# Altium footprint library SAMTEC-FTS-103-01-X-S.PcbLib: 1 footprints
Each footprint in its own frame and in the unit in brackets; x right, y up, seen from the top. Pads: shape width x height; smd on the part's side, far side on the other; paste and mask are expansions set on the pad; w line width, h text height; cw(c..) or ccw(c..) is an arc to the next point about the centre after c.
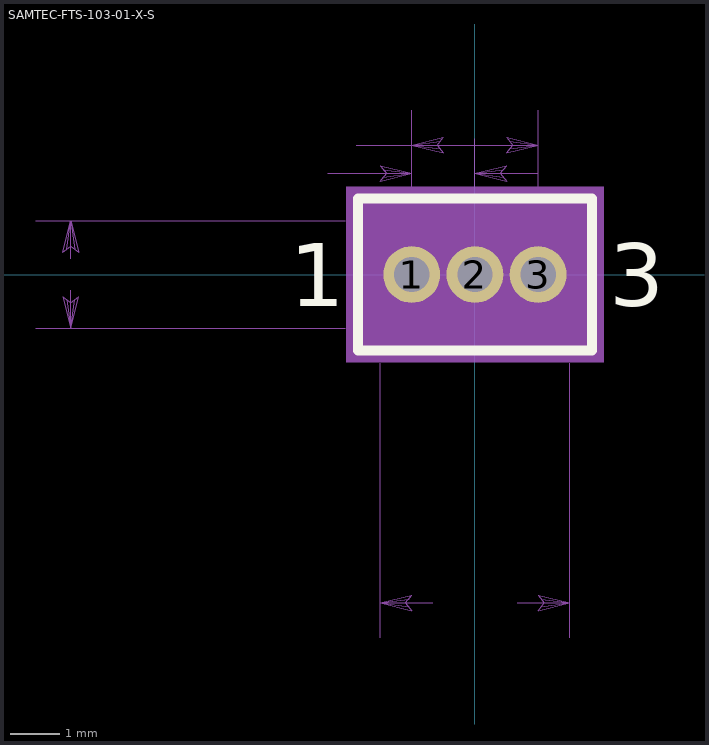
[diagram p0: the footprint, top view; thin cyan lines are the x and y axes]

## SAMTEC-FTS-103-01-X-S [mil]
pads (3):
  round 45 hole 27.95 mask+0: 1(-50,0) 2(0,0) 3(50,0)
Top Overlay:
  lines w7.87: -92.72,-60.24 -92.72,60.24 92.72,60.24 92.72,-60.24 -92.72,-60.24
  text "1" at -146.65,-25 h50
  text "3" at 106.14,-25 h50
Top Solder:
  circle w0: c-50,0 r24.49
  circle w0: c0,0 r24.49
  circle w0: c50,0 r24.49
Bottom Solder:
  circle w0: c-50,0 r24.49
  circle w0: c0,0 r24.49
  circle w0: c50,0 r24.49
Mechanical 13:
  lines w0: -347.6,-42.52 -102.6,-42.52 ; -347.6,42.52 -102.6,42.52 ; -320,-12.52 -320,-42.52 ; -320,12.52 -320,42.52 ; -116.5,80 -50,80 ; -94.02,102.52 -50,102.52 ; -75,-287.6 -75,-70.12 ; -50,107.6 -50,27.6 -50,130.12 ; -33.5,-260 -75,-260 ; 0,27.6 0,107.6 ; 33.5,-260 75,-260 ; 50,27.6 50,130.12 ; 50,80 0,80 ; 75,-287.6 75,-70.12 ; -326.26,-17.48 -320,-42.52 ; -326.26,-17.48 -320,-22.52 ; -326.26,-17.48 -323.11,-20 -320,-42.52 ; -320,-42.52 -313.74,-17.48 -320,-22.52 ; -320,-42.52 -316.89,-20 -320,-22.52 ; -320,-42.52 -320,-22.52 ; -320,22.52 -326.26,17.48 -320,42.52 ; -320,22.52 -313.74,17.48 ; -320,22.52 -323.11,20 -320,42.52 ; -320,22.52 -320,42.52 ; -320,42.52 -313.74,17.48 ; -320,42.52 -316.89,20 -313.74,17.48 ; -75,-260 -50,-253.74 ; -75,-260 -50,-266.26 -55,-260 ; -75,-260 -52.52,-263.11 -55,-260 ; -75,-260 -55,-260 ; -75,-260 -52.52,-256.89 -50,-253.74 ; -75,73.74 -50,80 ; -75,73.74 -70,80 ; -75,73.74 -72.52,76.89 -50,80 ; -70,80 -75,86.26 -50,80 ; -70,80 -72.52,83.11 -50,80 ; -70,80 -50,80 ; -55,-260 -50,-253.74 ; -50,102.52 -25,108.74 ; -50,102.52 -25,96.26 -30,102.52 ; -50,102.52 -27.48,99.37 -30,102.52 ; -50,102.52 -30,102.52 ; -50,102.52 -27.48,105.63 -25,108.74 ; -50,102.52 50,102.52 ; -30,102.52 -25,108.74 ; 0,80 25,86.26 ; 0,80 25,73.74 20,80 ; 0,80 22.52,76.89 20,80 ; 0,80 20,80 ; 0,80 22.52,83.11 25,86.26 ; 20,80 25,86.26 ; 25,96.26 50,102.52 ; 25,96.26 30,102.52 ; 25,96.26 27.48,99.37 50,102.52 ; 30,102.52 25,108.74 50,102.52 ; 30,102.52 27.48,105.63 50,102.52 ; 30,102.52 50,102.52 ; 50,-266.26 75,-260 ; 50,-266.26 55,-260 ; 50,-266.26 52.52,-263.11 75,-260 ; 55,-260 50,-253.74 75,-260 ; 55,-260 52.52,-256.89 75,-260 ; 55,-260 75,-260
  lines w3.94: -92.72,-60.24 -92.72,60.24 92.72,60.24 92.72,-60.24 -92.72,-60.24 ; -75,-42.52 -75,42.52 -25,42.52 25,42.52 75,42.52 75,-42.52 25,-42.52 -25,-42.52 -75,-42.52 ; -57.99,-7.99 -57.99,7.99 -42.01,7.99 -42.01,-7.99 -57.99,-7.99 ; -7.99,-7.99 -7.99,7.99 7.99,7.99 7.99,-7.99 -7.99,-7.99 ; 42.01,-7.99 57.99,-7.99 57.99,7.99 42.01,7.99 42.01,-7.99
  text "2.159" at -345.98,-5 h10
  text "1" at -146.65,-25 h50
  text "1.270" at -175.98,75 h10
  text "2.540" at -153.5,97.48 h10
  text "3.810" at -25.98,-265 h10
  text "3" at 106.14,-25 h50
Mechanical 15:
  region: 101.97,-69.49 -101.97,-69.49 -101.97,69.49 101.97,69.49